# Altium schematic symbol library MOTORDEMO.SchLib: 7 symbols
Pins are listed as number, name and electrical type; pins without a type are passive.

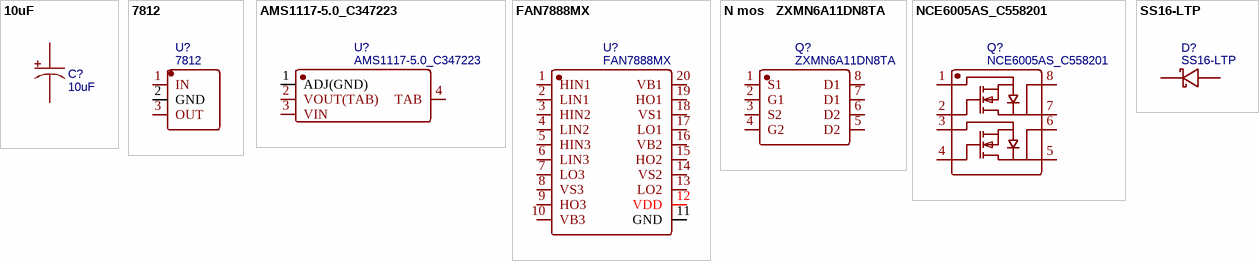
[diagram p0: symbols 10uF to SS16-LTP]

## 10uF
designator C?
BOM_Manufacturer: HONOR; BOM_Manufacturer Part: RVT1V100M0405; nameAlias: Capacitance; BOM_Supplier: LCSC; BOM_Supplier Part: C86602; spicePre: C; spiceSymbolName: RVT1V100M0405
footprint CAP-SMD_BD4.0-L4.3-W4.3-FD
pins: 1, 2

## 7812
designator U?
BOM_Manufacturer: Foshan Blue Rocket Elec; Contributor: LCSC; BOM_Supplier: LCSC; BOM_Supplier Part: C358369; BOM_Manufacturer Part: 7812; BOM_JLCPCB Part Class: Extended Part; spicePre: U; spiceSymbolName: 7812
footprint TO-220-3_L10.0-W4.5-P2.54-L
pins: 1 IN, 2 GND, 3 OUT

## AMS1117-5.0_C347223
designator U?
BOM_Manufacturer: Youtai Semiconductor Co., Ltd.; Contributor: LCSC; BOM_Supplier: LCSC; BOM_Supplier Part: C347223; BOM_Manufacturer Part: AMS1117-5.0; BOM_JLCPCB Part Class: Extended Part; spicePre: U; spiceSymbolName: AMS1117-5.0_C347223
footprint SOT-223_L6.7-W3.5-P2.30-BR
pins: 1 ADJ(GND), 2 VOUT(TAB), 3 VIN, 4 TAB

## FAN7888MX
designator U?
BOM_Manufacturer: ON Semicon; Contributor: LCSC; BOM_Supplier: LCSC; BOM_Supplier Part: C258167; BOM_Manufacturer Part: FAN7888MX; BOM_JLCPCB Part Class: Extended Part; spicePre: U; spiceSymbolName: FAN7888MX
footprint SOIC-20_L13.0-W7.6-P1.27-LS10.3-BL
pins: 1 HIN1, 2 LIN1, 3 HIN2, 4 LIN2, 5 HIN3, 6 LIN3, 7 LO3, 8 VS3, 9 HO3, 10 VB3, 11 GND, 12 VDD, 13 LO2, 14 VS2, 15 HO2, 16 VB2, 17 LO1, 18 VS1, 19 HO1, 20 VB1

## N mos   ZXMN6A11DN8TA
designator Q?, comment ZXMN6A11DN8TA
BOM_Manufacturer: Diodes Incorporated; Contributor: LCSC; BOM_Supplier: LCSC; BOM_Supplier Part: C211426; BOM_Manufacturer Part: ZXMN6A11DN8TA; BOM_JLCPCB Part Class: Extended Part; spicePre: Q; spiceSymbolName: ZXMN6A11DN8TA
footprint SOIC-8_L4.9-W3.9-P1.27-LS6.0-BL
pins: 1 S1, 2 G1, 3 S2, 4 G2, 5 D2, 6 D2, 7 D1, 8 D1

## NCE6005AS_C558201
designator Q?
BOM_Manufacturer: VBsemi Elec; Contributor: LCSC; BOM_Supplier: LCSC; BOM_Supplier Part: C558201; BOM_Manufacturer Part: NCE6005AS; BOM_JLCPCB Part Class: Extended Part; spicePre: Q; spiceSymbolName: NCE6005AS_C558201
footprint SOP-8_L5.0-W4.0-P1.27-LS6.0-BL
pins: 1, 2, 3, 4, 5, 6, 7, 8

## SS16-LTP
designator D?
BOM_Manufacturer: MCC; BOM_Supplier: LCSC; BOM_Manufacturer Part: SS16-LTP; BOM_Supplier Part: C85689; BOM_JLCPCB Part Class: Extended Part; spicePre: D; spiceSymbolName: SS16-LTP
footprint SMA_L4.3-W2.6-LS5.2-RD
pins: 1 C, 2 A